# Altium schematic symbol library tca6416a_symble.SchLib: 2 symbols
Pins are listed as number, name and electrical type; pins without a type are passive.

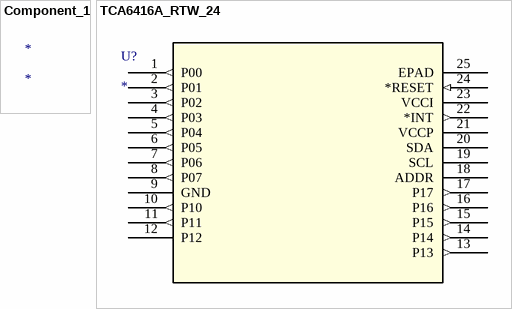
[diagram p0: symbols Component_1 to TCA6416A_RTW_24]

## Component_1
designator *

## TCA6416A_RTW_24
designator U?
Imported; Manufacturer: Texas Instruments; GENERIC_PART_NUMBER: TCA6416A; Manufacturer_Part_Number: tca6416a_rtw_24; INDUSTRY_STD_PKG_TYPE: QFN; FAMILY_NAME: I2C IO EXPANDER; PIN_COUNT: 24; PACKAGE_DESIGNATOR: RTW; Datasheet_URL: http://www.ti.com/lit/gpn/TCA6416A; Vendor: Texas Instruments; Value: Value; Type: Type; RefDes: RefDes
footprint RTW24_2P45X2P45
pins: 1 P00 (out), 2 P01 (out), 3 P02 (out), 4 P03 (out), 5 P04 (out), 6 P05 (out), 7 P06 (out), 8 P07 (out), 9 GND (power), 10 P10 (out), 11 P11 (out), 12 P12 (power), 13 P13 (out), 14 P14 (out), 15 P15 (out), 16 P16 (out), 17 P17 (out), 18 ADDR, 19 SCL, 20 SDA, 21 VCCP (power), 22 *INT (out), 23 VCCI (power), 24 *RESET (in), 25 EPAD